# Altium schematic symbol library STM32G031_SOIC8_Dev_Board.SchLib: 18 symbols
Pins are listed as number, name and electrical type; pins without a type are passive.

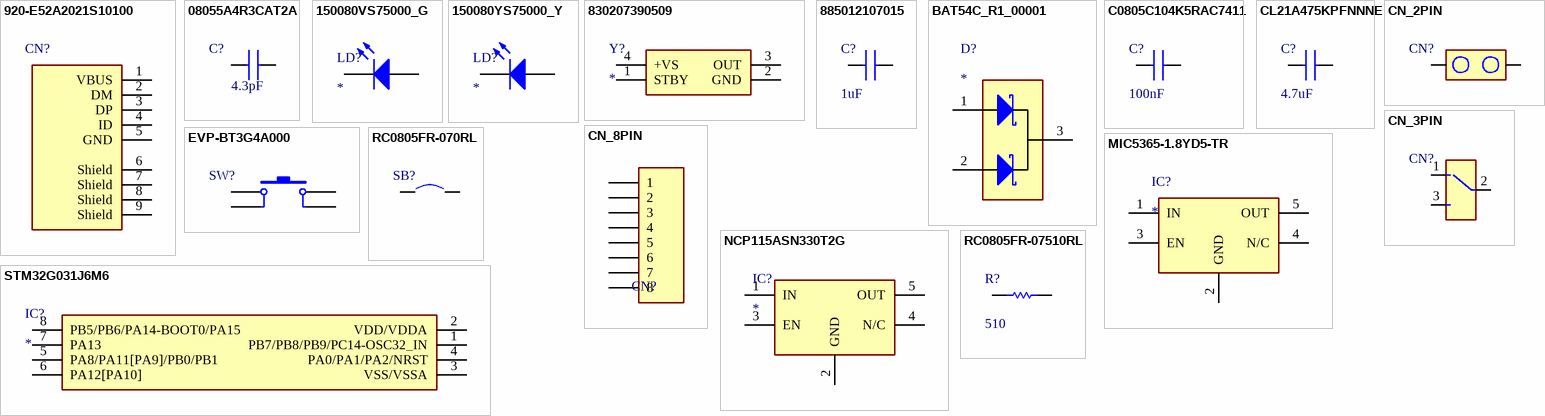
[diagram p0: symbols 920-E52A2021S10100 to STM32G031J6M6]

## 920-E52A2021S10100
designator CN?  (value not drawn)
USB connector; Manufacturer_Name: Jing Extension of the Electronic Co.; Datasheet Link: http://toshiba.semicon-storage.com/info/docget.jsp?did=65346&prodName=TB67H450FNG; Height: 1.9mm; Manufacturer_Part_Number: https://datasheet.lcsc.com/lcsc/2103051832_Jing-Extension-of-the-Electronic-Co--920-E52A2021S10100_C10418.pdf; Mouser Part Number: 920-E52A2021S10100; Mouser Price/Stock: https://www.mouser.co.uk/ProductDetail/Toshiba/TB67H450FNGEL?qs=h6V4JsTaLXeReNg2bp0jug%3D%3D; Arrow Part Number: TB67H450FNG,EL; Arrow Price/Stock: https://www.arrow.com/en/products/tb67h450fngel/toshiba?region=nac
footprint USB307530A
pins: 1 VBUS, 2 DM, 3 DP, 4 ID, 5 GND, 6 Shield, 7 Shield, 8 Shield, 9 Shield

## 08055A4R3CAT2A
designator C?  value 4.3pF  (hidden comment: *)
Capacitor; Manufacturer_Name: AVX; Manufacturer_Part_Number: 08055A4R3CAT2A; Datasheet Link: http://datasheets.avx.com/C0GNP0-Dielectric.pdf; Height: 0.94mm
footprint CAPC2012X94N
pins: 1, 2

## 150080VS75000_G
designator LD?
LED; Manufacturer_Name: Wurth Elektronik; Manufacturer_Part_Number: 150080VS75000; Value: Green; Datasheet Link: https://www.mouser.fr/datasheet/2/445/150080VS75000-1714385.pdf; Height: 0.8mm; Mouser Part Number: 710-150080VS75000
footprint LEDC2012X85N_G
pins: 1 K, 2 A

## 150080YS75000_Y
designator LD?
LED; Manufacturer_Name: Wurth Elektronik; Manufacturer_Part_Number: 150080YS75000; Value: Yellow; Datasheet Link: https://katalog.we-online.de/led/datasheet/150080YS75000.pdf; Height: 0.8mm; Mouser Part Number: 710-150080YS75000; Mouser Price/Stock: https://www.mouser.co.uk/ProductDetail/Wurth-Elektronik/150080YS75000?qs=LlUlMxKIyB3k0fZGrDMI2w%3D%3D
footprint LEDC2012X85N_Y
pins: 1 K, 2 A

## 830207390509
designator Y?
Crystal or Oscillator; Manufacturer_Name: Wurth Elektronik; Manufacturer_Part_Number: 830207390509; Value: 32.768kHz; Datasheet Link: https://www.we-online.com/catalog/datasheet/830207390509.pdf; Height: 0.95mm; Mouser Part Number: 710-830207390509; Mouser Price/Stock: https://www.mouser.co.uk/ProductDetail/Wurth-Elektronik/830207390509?qs=hd1VzrDQEGhCHFmQl67v7A%3D%3D
footprint 830207390509
pins: 1 STBY, 2 GND, 3 OUT, 4 +VS

## 885012107015
designator C?  value 1uF  (hidden comment: *)
Capacitor; Manufacturer_Name: Wurth Elektronik; Manufacturer_Part_Number: 885012107015; Datasheet Link: https://katalog.we-online.com/pbs/datasheet/885012107015.pdf; Height: 1.35mm; Mouser Part Number: 710-885012107015; Mouser Price/Stock: https://www.mouser.co.uk/ProductDetail/Wurth-Elektronik/885012107015?qs=0KOYDY2FL2%252BNQREZP%252BtVoQ%3D%3D
footprint CAPC2012X135N
pins: 1, 2

## BAT54C_R1_00001
designator D?
Schottky Diode; Manufacturer_Name: PANJIT; Manufacturer_Part_Number: BAT54C_R1_00001; Datasheet Link: https://www.mouser.com/datasheet/2/1057/BAT54_SERIES-1868988.pdf; Height: 1.1mm; Mouser Part Number: 241-BAT54C_R1_00001; Mouser Price/Stock: https://www.mouser.co.uk/ProductDetail/Panjit/BAT54C_R1_00001?qs=sPbYRqrBIVlWgFH05T87cA%3D%3D
footprint SOT95P240X110-3N
pins: 1 K_1, 2 K_2, 3 COM_A

## C0805C104K5RAC7411
designator C?  value 100nF  (hidden comment: *)
Capacitor; Manufacturer_Name: Kemet; Manufacturer_Part_Number: C0805C104K5RAC7411; Datasheet Link: https://www.mouser.com/datasheet/2/212/KEM_C1002_X7R_SMD-1102033.pdf; Height: 0.88mm; Mouser Part Number: 80-C0805C104K5RACLR; Mouser Price/Stock: https://www.mouser.co.uk/ProductDetail/KEMET/C0805C104K5RAC7411?qs=jbRM9o5BbzPcVXF0wW9AYg%3D%3D; Arrow Part Number: C0805C104K5RAC7411; Arrow Price/Stock: https://www.arrow.com/en/products/c0805c104k5rac7411/kemet-corporation
footprint CAPC2012X94N
pins: 1, 2

## CL21A475KPFNNNE
designator C?  value 4.7uF  (hidden comment: *)
Capacitor; Manufacturer_Name: Wurth Elektronik; Manufacturer_Part_Number: CL21A475KPFNNNE; Datasheet Link: https://www.mouser.fr/datasheet/2/585/MLCC-1837944.pdf; Height: 1.35mm; Mouser Part Number: 187-CL21A475KPFNNNE; Mouser Price/Stock: https://www.mouser.co.uk/ProductDetail/Wurth-Elektronik/885012107015?qs=0KOYDY2FL2%252BNQREZP%252BtVoQ%3D%3D
footprint CAPC2012X135N
pins: 1, 2

## CN_2PIN
designator CN?  (value not drawn)
Connector
footprint CN_2PIN (Connector; Edge; 22 Position)
pins: 1, 2

## CN_3PIN
designator CN?  (value not drawn)
Connector
footprint CN_3PIN (Connector; Edge; 22 Position)
pins: 1, 2, 3

## CN_8PIN
designator CN?  (value not drawn)
Connector
footprint CN_8PIN (Connector; Edge; 22 Position)
pins: 1, 2, 3, 4, 5, 6, 7, 8

## EVP-BT3G4A000
designator SW?  (value not drawn)
Tactile switch; Manufacturer_Name: Panasonic; Manufacturer_Part_Number: EVP-BT3G4A000; Datasheet Link: https://www.mouser.fr/datasheet/2/315/sw_lt_eng_6s_th-2889044.pdf; Height: 3.1mm
footprint EVP-BT3G4A000
pins: 1, 2, 3, 4

## MIC5365-1.8YD5-TR
designator IC?
Integrated Circuit; Manufacturer_Name: Microchip; Manufacturer_Part_Number: MIC5365-1.8YD5-TR; Value: 1.8V/150mA; Datasheet Link: http://ww1.microchip.com/downloads/en/DeviceDoc/mic5365.pdf; Height: 1mm; Mouser Part Number: 998-MIC5365-1.8YD5TR; Mouser Price/Stock: https://www.mouser.co.uk/ProductDetail/Microchip-Technology-Micrel/MIC5365-18YD5-TR?qs=U6T8BxXiZAVg0QgzW6KbsQ%3D%3D; Arrow Part Number: MIC5365-1.8YD5-TR; Arrow Price/Stock: https://www.arrow.com/en/products/mic5365-1.8yd5-tr/microchip-technology?region=nac
footprint SOT95P275X110-5N
pins: 1 IN, 2 GND, 3 EN, 4 N/C, 5 OUT

## NCP115ASN330T2G
designator IC?
Integrated Circuit; Manufacturer_Name: ON Semiconductor; Manufacturer_Part_Number: NCP115ASN330T2G; Value: 3.3V/300mA; Datasheet Link: http://www.onsemi.com/pub/Collateral/NCP115-D.PDF; Height: 1.1mm; Mouser Part Number: 863-NCP115ASN330T2G; Mouser Price/Stock: https://www.mouser.co.uk/ProductDetail/onsemi/NCP115ASN330T2G?qs=byeeYqUIh0PuUump9WHLUw%3D%3D; Arrow Part Number: NCP115ASN330T2G; Arrow Price/Stock: https://www.arrow.com/en/products/ncp115asn330t2g/on-semiconductor?region=europe
footprint SOT95P275X110-5N
pins: 1 IN, 2 GND, 3 EN, 4 N/C, 5 OUT

## RC0805FR-070RL
designator SB?  (value not drawn)
Jumper (0 ohm); Manufacturer_Name: YAGEO (PHYCOMP); Manufacturer_Part_Number: RC0805FR-070RL; Datasheet Link: https://datasheet.datasheetarchive.com/originals/distributors/Datasheets_SAMA/902f9e387b938f871d31120f5fc1d65e.pdf; Height: 0.6mm; Mouser Part Number: 603-RC0805FR-070RL; Mouser Price/Stock: https://www.mouser.co.uk/ProductDetail/YAGEO/RC0805FR-070RL?qs=fRxXYNj8ftF6kXqh1XbZJQ%3D%3D
footprint RESC2012X60N
pins: 1, 2

## RC0805FR-07510RL
designator R?  value 510  (hidden comment: *)
Resistor; Manufacturer_Name: YAGEO (PHYCOMP); Manufacturer_Part_Number: RC0805FR-07510RL; Datasheet Link: https://datasheet.datasheetarchive.com/originals/distributors/Datasheets_SAMA/902f9e387b938f871d31120f5fc1d65e.pdf; Height: 0.6mm; Mouser Part Number: 603-RC0805FR-07510RL; Mouser Price/Stock: https://www.mouser.com/Search/Refine.aspx?Keyword=603-RC0805FR-07510RL
footprint RESC2012X60N
pins: 1, 2

## STM32G031J6M6
designator IC?
Integrated Circuit; Manufacturer_Name: STMicroelectronics; Manufacturer_Part_Number: STM32G031J6M6; Datasheet Link: https://www.mouser.fr/datasheet/2/389/dm00613879-1799607.pdf; Height: 1.75mm; Mouser Part Number: 511-STM32G031J6M6
footprint SOIC127P600X175-8N
pins: 1 PB7/PB8/PB9/PC14-OSC32_IN, 2 VDD/VDDA, 3 VSS/VSSA, 4 PA0/PA1/PA2/NRST, 5 PA8/PA11[PA9]/PB0/PB1, 6 PA12[PA10], 7 PA13, 8 PB5/PB6/PA14-BOOT0/PA15